# EAGLE library part SPI_HEADER (library Subsystem Main)
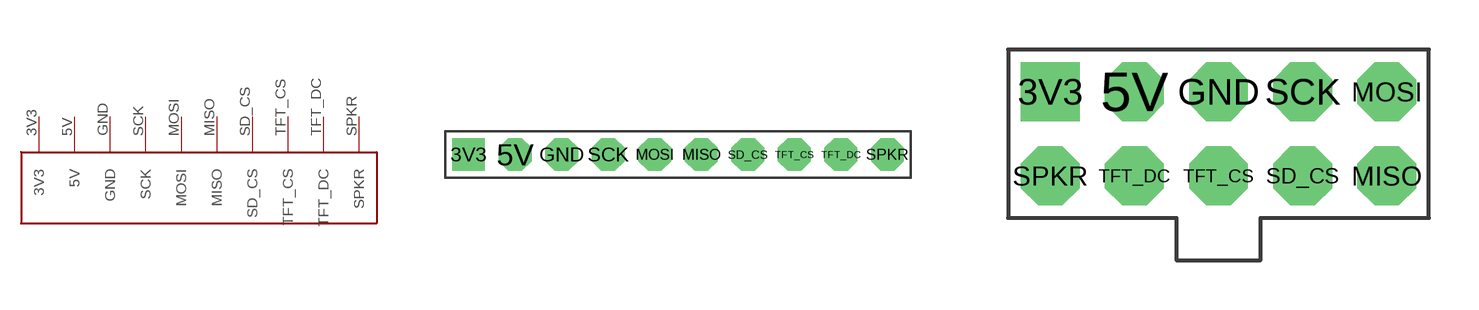
[diagram p0: symbol with the pads of SPI_HEADER_LINE; footprints SPI_HEADER_LINE, SPI_HEADER_RIBBON_CONNECTOR]

Designator prefix -

## SPI_HEADER  [SPI_HEADER_LINE]
3V3  3V3  pwr
5V  5V  pwr
GND  GND  pwr
MISO  MISO
MOSI  MOSI
SCK  SCK
SD_CS  SD_CS
SPKR  SPKR
TFT_CS  TFT_CS
TFT_DC  TFT_DC

## SPI_HEADERSPI_HEADER_RIBBON_CONNECTOR  [SPI_HEADER_RIBBON_CONNECTOR]
Pads as for SPI_HEADER_LINE

## Footprint SPI_HEADER_LINE (pad centres in mm)
drill 0.9 pad 1.778 square: 3V3 -11.43,0
drill 0.9 pad 1.778 octagon: 5V -8.89,0; GND -6.35,0; MISO 1.27,0; MOSI -1.27,0; SCK -3.81,0; SD_CS 3.81,0; SPKR 11.43,0; TFT_CS 6.35,0; TFT_DC 8.89,0

## Footprint SPI_HEADER_RIBBON_CONNECTOR (pad centres in mm)
drill 0.9 pad 1.778 square: 3V3 -5.08,1.27
drill 0.9 pad 1.778 octagon: 5V -2.54,1.27; GND 0,1.27; MISO 5.08,-1.27; MOSI 5.08,1.27; SCK 2.54,1.27; SD_CS 2.54,-1.27; SPKR -5.08,-1.27; TFT_CS 0,-1.27; TFT_DC -2.54,-1.27